# Altium integrated library Altium_WCAP-CSGP (rev22a).IntLib: 953 symbols (part 16 of 17)
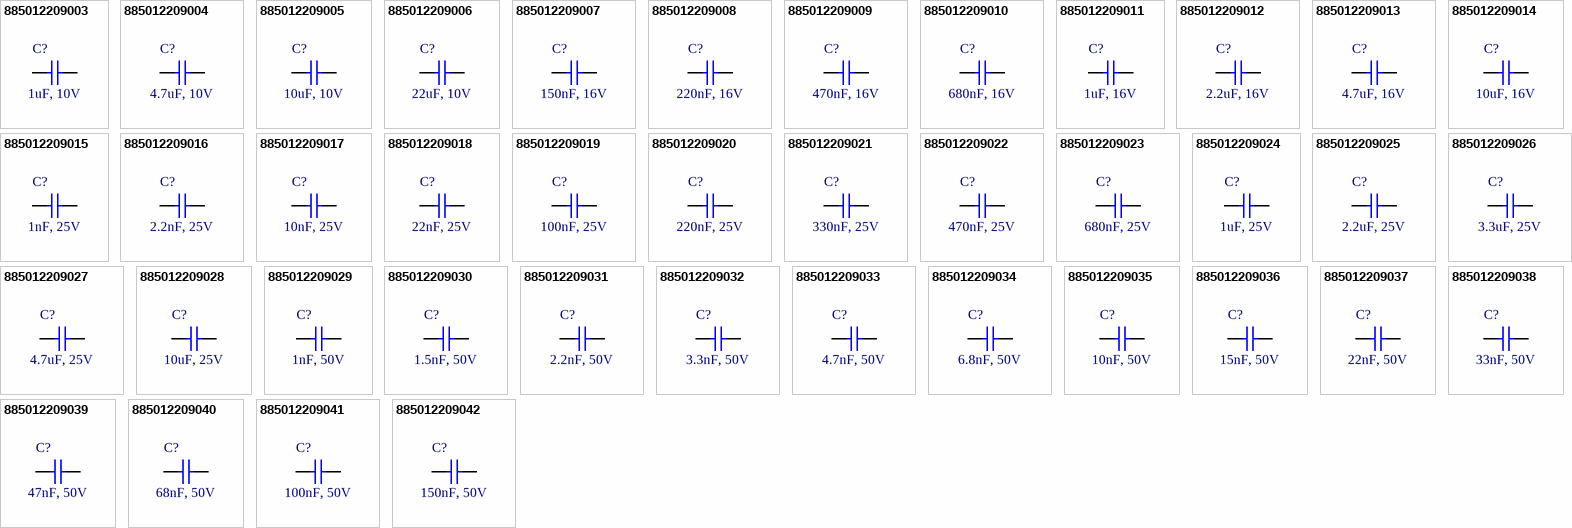
[diagram p42: symbols 885012209003 to 885012209042]

## 885012209020
designator C?, comment 220nF, 25V
WCAP-CSGP Multilayer Ceramic Chip Capacitor, General Purpose, size 1210, X7R, 220nF, 25V; Manufacturer: Wurth Elektronik; Manufacturer Part Number: 885012209020; Capacitance Tolerance: +/-10%; Dissipation Factor: 3.5%; Isolation Resistance: 2.3GOhm; Technical Reference: X7R1210224K025DFCT10000; Capacitance: 220nF; Ceramic Type: X7R; ComponentLink1Description: Manufacturer Link; ComponentLink1URL: http://www.we-online.de; ComponentLink2Description: Datasheet; ComponentLink2URL: https://www.we-online.com/catalog/datasheet/885012209020.pdf; Height: 0.95mm; Length: 3.2mm; Mounting Technology: SMT; Operating Temperature max.: 125C; Operating Temperature min.: -55C; Packaging: Tape and Reel; Rated Voltage: 25V; Size: 1210; Width: 2.5mm
footprint WCAP-CSGP_1210_L3.2W2.5H0.95
pins: 1, 2

## 885012209021
designator C?, comment 330nF, 25V
WCAP-CSGP Multilayer Ceramic Chip Capacitor, General Purpose, size 1210, X7R, 330nF, 25V; Manufacturer: Wurth Elektronik; Manufacturer Part Number: 885012209021; Capacitance Tolerance: +/-10%; Dissipation Factor: 3.5%; Isolation Resistance: 1.5GOhm; Technical Reference: X7R1210334K025DFCT10000; Capacitance: 330nF; Ceramic Type: X7R; ComponentLink1Description: Manufacturer Link; ComponentLink1URL: http://www.we-online.de; ComponentLink2Description: Datasheet; ComponentLink2URL: https://www.we-online.com/catalog/datasheet/885012209021.pdf; Height: 0.95mm; Length: 3.2mm; Mounting Technology: SMT; Operating Temperature max.: 125C; Operating Temperature min.: -55C; Packaging: Tape and Reel; Rated Voltage: 25V; Size: 1210; Width: 2.5mm
footprint WCAP-CSGP_1210_L3.2W2.5H0.95
pins: 1, 2

## 885012209022
designator C?, comment 470nF, 25V
WCAP-CSGP Multilayer Ceramic Chip Capacitor, General Purpose, size 1210, X7R, 470nF, 25V; Manufacturer: Wurth Elektronik; Manufacturer Part Number: 885012209022; Capacitance Tolerance: +/-10%; Dissipation Factor: 3.5%; Isolation Resistance: 1.1GOhm; Technical Reference: X7R1210474K025DFCT10000; Capacitance: 470nF; Ceramic Type: X7R; ComponentLink1Description: Manufacturer Link; ComponentLink1URL: http://www.we-online.de; ComponentLink2Description: Datasheet; ComponentLink2URL: https://www.we-online.com/catalog/datasheet/885012209022.pdf; Height: 0.95mm; Length: 3.2mm; Mounting Technology: SMT; Operating Temperature max.: 125C; Operating Temperature min.: -55C; Packaging: Tape and Reel; Rated Voltage: 25V; Size: 1210; Width: 2.5mm
footprint WCAP-CSGP_1210_L3.2W2.5H0.95
pins: 1, 2

## 885012209023
designator C?, comment 680nF, 25V
WCAP-CSGP Multilayer Ceramic Chip Capacitor, General Purpose, size 1210, X7R, 680nF, 25V; Manufacturer: Wurth Elektronik; Manufacturer Part Number: 885012209023; Capacitance Tolerance: +/-10%; Dissipation Factor: 3.5%; Isolation Resistance: 0.7GOhm; Technical Reference: X7R1210684K025DFCT10000; Capacitance: 680nF; Ceramic Type: X7R; ComponentLink1Description: Manufacturer Link; ComponentLink1URL: http://www.we-online.de; ComponentLink2Description: Datasheet; ComponentLink2URL: https://www.we-online.com/catalog/datasheet/885012209023.pdf; Height: 1.25mm; Length: 3.2mm; Mounting Technology: SMT; Operating Temperature max.: 125C; Operating Temperature min.: -55C; Packaging: Tape and Reel; Rated Voltage: 25V; Size: 1210; Width: 2.5mm
footprint WCAP-CSGP_1210_L3.2W2.5H1.25
pins: 1, 2

## 885012209024
designator C?, comment 1uF, 25V
WCAP-CSGP Multilayer Ceramic Chip Capacitor, General Purpose, size 1210, X7R, 1uF, 25V; Manufacturer: Wurth Elektronik; Manufacturer Part Number: 885012209024; Capacitance Tolerance: +/-10%; Dissipation Factor: 3.5%; Isolation Resistance: 0.5GOhm; Technical Reference: X7R1210105K025DFCT10000; Capacitance: 1uF; Ceramic Type: X7R; ComponentLink1Description: Manufacturer Link; ComponentLink1URL: http://www.we-online.de; ComponentLink2Description: Datasheet; ComponentLink2URL: https://www.we-online.com/catalog/datasheet/885012209024.pdf; Height: 1.25mm; Length: 3.2mm; Mounting Technology: SMT; Operating Temperature max.: 125C; Operating Temperature min.: -55C; Packaging: Tape and Reel; Rated Voltage: 25V; Size: 1210; Width: 2.5mm
footprint WCAP-CSGP_1210_L3.2W2.5H1.25
pins: 1, 2

## 885012209025
designator C?, comment 2.2uF, 25V
WCAP-CSGP Multilayer Ceramic Chip Capacitor, General Purpose, size 1210, X7R, 2.2uF, 25V; Manufacturer: Wurth Elektronik; Manufacturer Part Number: 885012209025; Capacitance Tolerance: +/-10%; Dissipation Factor: 3.5%; Isolation Resistance: 0.2GOhm; Technical Reference: X7R1210225K025DFCT10000; Capacitance: 2.2uF; Ceramic Type: X7R; ComponentLink1Description: Manufacturer Link; ComponentLink1URL: http://www.we-online.de; ComponentLink2Description: Datasheet; ComponentLink2URL: https://www.we-online.com/catalog/datasheet/885012209025.pdf; Height: 1.6mm; Length: 3.2mm; Mounting Technology: SMT; Operating Temperature max.: 125C; Operating Temperature min.: -55C; Packaging: Tape and Reel; Rated Voltage: 25V; Size: 1210; Width: 2.5mm
footprint WCAP-CSGP_1210_L3.2W2.5H1.6
pins: 1, 2

## 885012209026
designator C?, comment 3.3uF, 25V
WCAP-CSGP Multilayer Ceramic Chip Capacitor, General Purpose, size 1210, X7R, 3.3uF, 25V; Manufacturer: Wurth Elektronik; Manufacturer Part Number: 885012209026; Capacitance Tolerance: +/-10%; Dissipation Factor: 3.5%; Isolation Resistance: 0.2GOhm; Technical Reference: X7R1210335K025DFCT10000; Capacitance: 3.3uF; Ceramic Type: X7R; ComponentLink1Description: Manufacturer Link; ComponentLink1URL: http://www.we-online.de; ComponentLink2Description: Datasheet; ComponentLink2URL: https://www.we-online.com/catalog/datasheet/885012209026.pdf; Height: 1.6mm; Length: 3.2mm; Mounting Technology: SMT; Operating Temperature max.: 125C; Operating Temperature min.: -55C; Packaging: Tape and Reel; Rated Voltage: 25V; Size: 1210; Width: 2.5mm
footprint WCAP-CSGP_1210_L3.2W2.5H1.6
pins: 1, 2

## 885012209027
designator C?, comment 4.7uF, 25V
WCAP-CSGP Multilayer Ceramic Chip Capacitor, General Purpose, size 1210, X7R, 4.7uF, 25V; Manufacturer: Wurth Elektronik; Manufacturer Part Number: 885012209027; Capacitance Tolerance: +/-10%; Dissipation Factor: 3.5%; Isolation Resistance: 0.1GOhm; Technical Reference: X7R1210475K025DFCT10000; Capacitance: 4.7uF; Ceramic Type: X7R; ComponentLink1Description: Manufacturer Link; ComponentLink1URL: http://www.we-online.de; ComponentLink2Description: Datasheet; ComponentLink2URL: https://www.we-online.com/catalog/datasheet/885012209027.pdf; Height: 2mm; Length: 3.2mm; Mounting Technology: SMT; Operating Temperature max.: 125C; Operating Temperature min.: -55C; Packaging: Tape and Reel; Rated Voltage: 25V; Size: 1210; Width: 2.5mm
footprint WCAP-CSGP_1210_L3.2W2.5H2
pins: 1, 2

## 885012209028
designator C?, comment 10uF, 25V
WCAP-CSGP Multilayer Ceramic Chip Capacitor, General Purpose, size 1210, X7R, 10uF, 25V; Manufacturer: Wurth Elektronik; Manufacturer Part Number: 885012209028; Capacitance Tolerance: +/-10%; Dissipation Factor: 5%; Isolation Resistance: 0.01GOhm; Technical Reference: X7R1210106K025DFCT10000; Capacitance: 10uF; Ceramic Type: X7R; ComponentLink1Description: Manufacturer Link; ComponentLink1URL: http://www.we-online.de; ComponentLink2Description: Datasheet; ComponentLink2URL: https://www.we-online.com/catalog/datasheet/885012209028.pdf; Height: 2mm; Length: 3.2mm; Mounting Technology: SMT; Operating Temperature max.: 125C; Operating Temperature min.: -55C; Packaging: Tape and Reel; Rated Voltage: 25V; Size: 1210; Width: 2.5mm
footprint WCAP-CSGP_1210_L3.2W2.5H2
pins: 1, 2

## 885012209029
designator C?, comment 1nF, 50V
WCAP-CSGP Multilayer Ceramic Chip Capacitor, General Purpose, size 1210, X7R, 1nF, 50V; Manufacturer: Wurth Elektronik; Manufacturer Part Number: 885012209029; Capacitance Tolerance: +/-10%; Dissipation Factor: 2.5%; Isolation Resistance: 10GOhm; Technical Reference: X7R1210102K050DFCT10000; Capacitance: 1nF; Ceramic Type: X7R; ComponentLink1Description: Manufacturer Link; ComponentLink1URL: http://www.we-online.de; ComponentLink2Description: Datasheet; ComponentLink2URL: https://www.we-online.com/catalog/datasheet/885012209029.pdf; Height: 0.95mm; Length: 3.2mm; Mounting Technology: SMT; Operating Temperature max.: 125C; Operating Temperature min.: -55C; Packaging: Tape and Reel; Rated Voltage: 50V; Size: 1210; Width: 2.5mm
footprint WCAP-CSGP_1210_L3.2W2.5H0.95
pins: 1, 2

## 885012209030
designator C?, comment 1.5nF, 50V
WCAP-CSGP Multilayer Ceramic Chip Capacitor, General Purpose, size 1210, X7R, 1.5nF, 50V; Manufacturer: Wurth Elektronik; Manufacturer Part Number: 885012209030; Capacitance Tolerance: +/-10%; Dissipation Factor: 2.5%; Isolation Resistance: 10GOhm; Technical Reference: X7R1210152K050DFCT10000; Capacitance: 1.5nF; Ceramic Type: X7R; ComponentLink1Description: Manufacturer Link; ComponentLink1URL: http://www.we-online.de; ComponentLink2Description: Datasheet; ComponentLink2URL: https://www.we-online.com/catalog/datasheet/885012209030.pdf; Height: 0.95mm; Length: 3.2mm; Mounting Technology: SMT; Operating Temperature max.: 125C; Operating Temperature min.: -55C; Packaging: Tape and Reel; Rated Voltage: 50V; Size: 1210; Width: 2.5mm
footprint WCAP-CSGP_1210_L3.2W2.5H0.95
pins: 1, 2

## 885012209031
designator C?, comment 2.2nF, 50V
WCAP-CSGP Multilayer Ceramic Chip Capacitor, General Purpose, size 1210, X7R, 2.2nF, 50V; Manufacturer: Wurth Elektronik; Manufacturer Part Number: 885012209031; Capacitance Tolerance: +/-10%; Dissipation Factor: 2.5%; Isolation Resistance: 10GOhm; Technical Reference: X7R1210222K050DFCT10000; Capacitance: 2.2nF; Ceramic Type: X7R; ComponentLink1Description: Manufacturer Link; ComponentLink1URL: http://www.we-online.de; ComponentLink2Description: Datasheet; ComponentLink2URL: https://www.we-online.com/catalog/datasheet/885012209031.pdf; Height: 0.95mm; Length: 3.2mm; Mounting Technology: SMT; Operating Temperature max.: 125C; Operating Temperature min.: -55C; Packaging: Tape and Reel; Rated Voltage: 50V; Size: 1210; Width: 2.5mm
footprint WCAP-CSGP_1210_L3.2W2.5H0.95
pins: 1, 2

## 885012209032
designator C?, comment 3.3nF, 50V
WCAP-CSGP Multilayer Ceramic Chip Capacitor, General Purpose, size 1210, X7R, 3.3nF, 50V; Manufacturer: Wurth Elektronik; Manufacturer Part Number: 885012209032; Capacitance Tolerance: +/-10%; Dissipation Factor: 2.5%; Isolation Resistance: 10GOhm; Technical Reference: X7R1210332K050DFCT10000; Capacitance: 3.3nF; Ceramic Type: X7R; ComponentLink1Description: Manufacturer Link; ComponentLink1URL: http://www.we-online.de; ComponentLink2Description: Datasheet; ComponentLink2URL: https://www.we-online.com/catalog/datasheet/885012209032.pdf; Height: 0.95mm; Length: 3.2mm; Mounting Technology: SMT; Operating Temperature max.: 125C; Operating Temperature min.: -55C; Packaging: Tape and Reel; Rated Voltage: 50V; Size: 1210; Width: 2.5mm
footprint WCAP-CSGP_1210_L3.2W2.5H0.95
pins: 1, 2

## 885012209033
designator C?, comment 4.7nF, 50V
WCAP-CSGP Multilayer Ceramic Chip Capacitor, General Purpose, size 1210, X7R, 4.7nF, 50V; Manufacturer: Wurth Elektronik; Manufacturer Part Number: 885012209033; Capacitance Tolerance: +/-10%; Dissipation Factor: 2.5%; Isolation Resistance: 10GOhm; Technical Reference: X7R1210472K050DFCT10000; Capacitance: 4.7nF; Ceramic Type: X7R; ComponentLink1Description: Manufacturer Link; ComponentLink1URL: http://www.we-online.de; ComponentLink2Description: Datasheet; ComponentLink2URL: https://www.we-online.com/catalog/datasheet/885012209033.pdf; Height: 0.95mm; Length: 3.2mm; Mounting Technology: SMT; Operating Temperature max.: 125C; Operating Temperature min.: -55C; Packaging: Tape and Reel; Rated Voltage: 50V; Size: 1210; Width: 2.5mm
footprint WCAP-CSGP_1210_L3.2W2.5H0.95
pins: 1, 2

## 885012209034
designator C?, comment 6.8nF, 50V
WCAP-CSGP Multilayer Ceramic Chip Capacitor, General Purpose, size 1210, X7R, 6.8nF, 50V; Manufacturer: Wurth Elektronik; Manufacturer Part Number: 885012209034; Capacitance Tolerance: +/-10%; Dissipation Factor: 2.5%; Isolation Resistance: 10GOhm; Technical Reference: X7R1210682K050DFCT10000; Capacitance: 6.8nF; Ceramic Type: X7R; ComponentLink1Description: Manufacturer Link; ComponentLink1URL: http://www.we-online.de; ComponentLink2Description: Datasheet; ComponentLink2URL: https://www.we-online.com/catalog/datasheet/885012209034.pdf; Height: 0.95mm; Length: 3.2mm; Mounting Technology: SMT; Operating Temperature max.: 125C; Operating Temperature min.: -55C; Packaging: Tape and Reel; Rated Voltage: 50V; Size: 1210; Width: 2.5mm
footprint WCAP-CSGP_1210_L3.2W2.5H0.95
pins: 1, 2

## 885012209035
designator C?, comment 10nF, 50V
WCAP-CSGP Multilayer Ceramic Chip Capacitor, General Purpose, size 1210, X7R, 10nF, 50V; Manufacturer: Wurth Elektronik; Manufacturer Part Number: 885012209035; Capacitance Tolerance: +/-10%; Dissipation Factor: 2.5%; Isolation Resistance: 10GOhm; Technical Reference: X7R1210103K050DFCT10000; Capacitance: 10nF; Ceramic Type: X7R; ComponentLink1Description: Manufacturer Link; ComponentLink1URL: http://www.we-online.de; ComponentLink2Description: Datasheet; ComponentLink2URL: https://www.we-online.com/catalog/datasheet/885012209035.pdf; Height: 0.95mm; Length: 3.2mm; Mounting Technology: SMT; Operating Temperature max.: 125C; Operating Temperature min.: -55C; Packaging: Tape and Reel; Rated Voltage: 50V; Size: 1210; Width: 2.5mm
footprint WCAP-CSGP_1210_L3.2W2.5H0.95
pins: 1, 2

## 885012209036
designator C?, comment 15nF, 50V
WCAP-CSGP Multilayer Ceramic Chip Capacitor, General Purpose, size 1210, X7R, 15nF, 50V; Manufacturer: Wurth Elektronik; Manufacturer Part Number: 885012209036; Capacitance Tolerance: +/-10%; Dissipation Factor: 2.5%; Isolation Resistance: 10GOhm; Technical Reference: X7R1210153K050DFCT10000; Capacitance: 15nF; Ceramic Type: X7R; ComponentLink1Description: Manufacturer Link; ComponentLink1URL: http://www.we-online.de; ComponentLink2Description: Datasheet; ComponentLink2URL: https://www.we-online.com/catalog/datasheet/885012209036.pdf; Height: 0.95mm; Length: 3.2mm; Mounting Technology: SMT; Operating Temperature max.: 125C; Operating Temperature min.: -55C; Packaging: Tape and Reel; Rated Voltage: 50V; Size: 1210; Width: 2.5mm
footprint WCAP-CSGP_1210_L3.2W2.5H0.95
pins: 1, 2

## 885012209037
designator C?, comment 22nF, 50V
WCAP-CSGP Multilayer Ceramic Chip Capacitor, General Purpose, size 1210, X7R, 22nF, 50V; Manufacturer: Wurth Elektronik; Manufacturer Part Number: 885012209037; Capacitance Tolerance: +/-10%; Dissipation Factor: 2.5%; Isolation Resistance: 10GOhm; Technical Reference: X7R1210223K050DFCT10000; Capacitance: 22nF; Ceramic Type: X7R; ComponentLink1Description: Manufacturer Link; ComponentLink1URL: http://www.we-online.de; ComponentLink2Description: Datasheet; ComponentLink2URL: https://www.we-online.com/catalog/datasheet/885012209037.pdf; Height: 0.95mm; Length: 3.2mm; Mounting Technology: SMT; Operating Temperature max.: 125C; Operating Temperature min.: -55C; Packaging: Tape and Reel; Rated Voltage: 50V; Size: 1210; Width: 2.5mm
footprint WCAP-CSGP_1210_L3.2W2.5H0.95
pins: 1, 2

## 885012209038
designator C?, comment 33nF, 50V
WCAP-CSGP Multilayer Ceramic Chip Capacitor, General Purpose, size 1210, X7R, 33nF, 50V; Manufacturer: Wurth Elektronik; Manufacturer Part Number: 885012209038; Capacitance Tolerance: +/-10%; Dissipation Factor: 2.5%; Isolation Resistance: 10GOhm; Technical Reference: X7R1210333K050DFCT10000; Capacitance: 33nF; Ceramic Type: X7R; ComponentLink1Description: Manufacturer Link; ComponentLink1URL: http://www.we-online.de; ComponentLink2Description: Datasheet; ComponentLink2URL: https://www.we-online.com/catalog/datasheet/885012209038.pdf; Height: 0.95mm; Length: 3.2mm; Mounting Technology: SMT; Operating Temperature max.: 125C; Operating Temperature min.: -55C; Packaging: Tape and Reel; Rated Voltage: 50V; Size: 1210; Width: 2.5mm
footprint WCAP-CSGP_1210_L3.2W2.5H0.95
pins: 1, 2

## 885012209039
designator C?, comment 47nF, 50V
WCAP-CSGP Multilayer Ceramic Chip Capacitor, General Purpose, size 1210, X7R, 47nF, 50V; Manufacturer: Wurth Elektronik; Manufacturer Part Number: 885012209039; Capacitance Tolerance: +/-10%; Dissipation Factor: 2.5%; Isolation Resistance: 10GOhm; Technical Reference: X7R1210473K050DFCT10000; Capacitance: 47nF; Ceramic Type: X7R; ComponentLink1Description: Manufacturer Link; ComponentLink1URL: http://www.we-online.de; ComponentLink2Description: Datasheet; ComponentLink2URL: https://www.we-online.com/catalog/datasheet/885012209039.pdf; Height: 0.95mm; Length: 3.2mm; Mounting Technology: SMT; Operating Temperature max.: 125C; Operating Temperature min.: -55C; Packaging: Tape and Reel; Rated Voltage: 50V; Size: 1210; Width: 2.5mm
footprint WCAP-CSGP_1210_L3.2W2.5H0.95
pins: 1, 2

## 885012209040
designator C?, comment 68nF, 50V
WCAP-CSGP Multilayer Ceramic Chip Capacitor, General Purpose, size 1210, X7R, 68nF, 50V; Manufacturer: Wurth Elektronik; Manufacturer Part Number: 885012209040; Capacitance Tolerance: +/-10%; Dissipation Factor: 2.5%; Isolation Resistance: 7.4GOhm; Technical Reference: X7R1210683K050DFCT10000; Capacitance: 68nF; Ceramic Type: X7R; ComponentLink1Description: Manufacturer Link; ComponentLink1URL: http://www.we-online.de; ComponentLink2Description: Datasheet; ComponentLink2URL: https://www.we-online.com/catalog/datasheet/885012209040.pdf; Height: 0.95mm; Length: 3.2mm; Mounting Technology: SMT; Operating Temperature max.: 125C; Operating Temperature min.: -55C; Packaging: Tape and Reel; Rated Voltage: 50V; Size: 1210; Width: 2.5mm
footprint WCAP-CSGP_1210_L3.2W2.5H0.95
pins: 1, 2

## 885012209041
designator C?, comment 100nF, 50V
WCAP-CSGP Multilayer Ceramic Chip Capacitor, General Purpose, size 1210, X7R, 100nF, 50V; Manufacturer: Wurth Elektronik; Manufacturer Part Number: 885012209041; Capacitance Tolerance: +/-10%; Dissipation Factor: 2.5%; Isolation Resistance: 5GOhm; Technical Reference: X7R1210104K050DFCT10000; Capacitance: 100nF; Ceramic Type: X7R; ComponentLink1Description: Manufacturer Link; ComponentLink1URL: http://www.we-online.de; ComponentLink2Description: Datasheet; ComponentLink2URL: https://www.we-online.com/catalog/datasheet/885012209041.pdf; Height: 0.95mm; Length: 3.2mm; Mounting Technology: SMT; Operating Temperature max.: 125C; Operating Temperature min.: -55C; Packaging: Tape and Reel; Rated Voltage: 50V; Size: 1210; Width: 2.5mm
footprint WCAP-CSGP_1210_L3.2W2.5H0.95
pins: 1, 2

## 885012209042
designator C?, comment 150nF, 50V
WCAP-CSGP Multilayer Ceramic Chip Capacitor, General Purpose, size 1210, X7R, 150nF, 50V; Manufacturer: Wurth Elektronik; Manufacturer Part Number: 885012209042; Capacitance Tolerance: +/-10%; Dissipation Factor: 2.5%; Isolation Resistance: 3.3GOhm; Technical Reference: X7R1210154K050DFCT10000; Capacitance: 150nF; Ceramic Type: X7R; ComponentLink1Description: Manufacturer Link; ComponentLink1URL: http://www.we-online.de; ComponentLink2Description: Datasheet; ComponentLink2URL: https://www.we-online.com/catalog/datasheet/885012209042.pdf; Height: 0.95mm; Length: 3.2mm; Mounting Technology: SMT; Operating Temperature max.: 125C; Operating Temperature min.: -55C; Packaging: Tape and Reel; Rated Voltage: 50V; Size: 1210; Width: 2.5mm
footprint WCAP-CSGP_1210_L3.2W2.5H0.95
pins: 1, 2

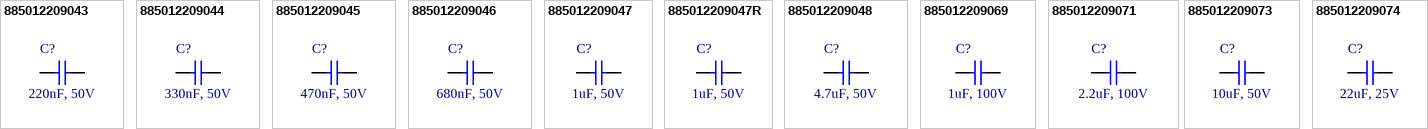
[diagram p25: symbols 885012209043 to 885012209074]

## 885012209043
designator C?, comment 220nF, 50V
WCAP-CSGP Multilayer Ceramic Chip Capacitor, General Purpose, size 1210, X7R, 220nF, 50V; Manufacturer: Wurth Elektronik; Manufacturer Part Number: 885012209043; Capacitance Tolerance: +/-10%; Dissipation Factor: 2.5%; Isolation Resistance: 2.3GOhm; Technical Reference: X7R1210224K050DFCT10000; Capacitance: 220nF; Ceramic Type: X7R; ComponentLink1Description: Manufacturer Link; ComponentLink1URL: http://www.we-online.de; ComponentLink2Description: Datasheet; ComponentLink2URL: https://www.we-online.com/catalog/datasheet/885012209043.pdf; Height: 0.95mm; Length: 3.2mm; Mounting Technology: SMT; Operating Temperature max.: 125C; Operating Temperature min.: -55C; Packaging: Tape and Reel; Rated Voltage: 50V; Size: 1210; Width: 2.5mm
footprint WCAP-CSGP_1210_L3.2W2.5H0.95
pins: 1, 2

## 885012209044
designator C?, comment 330nF, 50V
WCAP-CSGP Multilayer Ceramic Chip Capacitor, General Purpose, size 1210, X7R, 330nF, 50V; Manufacturer: Wurth Elektronik; Manufacturer Part Number: 885012209044; Capacitance Tolerance: +/-10%; Dissipation Factor: 2.5%; Isolation Resistance: 1.5GOhm; Technical Reference: X7R1210334K050DFCT10000; Capacitance: 330nF; Ceramic Type: X7R; ComponentLink1Description: Manufacturer Link; ComponentLink1URL: http://www.we-online.de; ComponentLink2Description: Datasheet; ComponentLink2URL: https://www.we-online.com/catalog/datasheet/885012209044.pdf; Height: 1.25mm; Length: 3.2mm; Mounting Technology: SMT; Operating Temperature max.: 125C; Operating Temperature min.: -55C; Packaging: Tape and Reel; Rated Voltage: 50V; Size: 1210; Width: 2.5mm
footprint WCAP-CSGP_1210_L3.2W2.5H1.25
pins: 1, 2

## 885012209045
designator C?, comment 470nF, 50V
WCAP-CSGP Multilayer Ceramic Chip Capacitor, General Purpose, size 1210, X7R, 470nF, 50V; Manufacturer: Wurth Elektronik; Manufacturer Part Number: 885012209045; Capacitance Tolerance: +/-10%; Dissipation Factor: 2.5%; Isolation Resistance: 1.1GOhm; Technical Reference: X7R1210474K050DFCT10000; Capacitance: 470nF; Ceramic Type: X7R; ComponentLink1Description: Manufacturer Link; ComponentLink1URL: http://www.we-online.de; ComponentLink2Description: Datasheet; ComponentLink2URL: https://www.we-online.com/catalog/datasheet/885012209045.pdf; Height: 1.25mm; Length: 3.2mm; Mounting Technology: SMT; Operating Temperature max.: 125C; Operating Temperature min.: -55C; Packaging: Tape and Reel; Rated Voltage: 50V; Size: 1210; Width: 2.5mm
footprint WCAP-CSGP_1210_L3.2W2.5H1.25
pins: 1, 2

## 885012209046
designator C?, comment 680nF, 50V
WCAP-CSGP Multilayer Ceramic Chip Capacitor, General Purpose, size 1210, X7R, 680nF, 50V; Manufacturer: Wurth Elektronik; Manufacturer Part Number: 885012209046; Capacitance Tolerance: +/-10%; Dissipation Factor: 2.5%; Isolation Resistance: 0.7GOhm; Technical Reference: X7R1210684K050DFCT10000; Capacitance: 680nF; Ceramic Type: X7R; ComponentLink1Description: Manufacturer Link; ComponentLink1URL: http://www.we-online.de; ComponentLink2Description: Datasheet; ComponentLink2URL: https://www.we-online.com/catalog/datasheet/885012209046.pdf; Height: 1.25mm; Length: 3.2mm; Mounting Technology: SMT; Operating Temperature max.: 125C; Operating Temperature min.: -55C; Packaging: Tape and Reel; Rated Voltage: 50V; Size: 1210; Width: 2.5mm
footprint WCAP-CSGP_1210_L3.2W2.5H1.25
pins: 1, 2

## 885012209047
designator C?, comment 1uF, 50V
WCAP-CSGP Multilayer Ceramic Chip Capacitor, General Purpose, size 1210, X7R, 1uF, 50V; Manufacturer: Wurth Elektronik; Manufacturer Part Number: 885012209047; Capacitance Tolerance: +/-10%; Dissipation Factor: 2.5%; Isolation Resistance: 0.5GOhm; Technical Reference: X7R1210105K050DFCT10000; Capacitance: 1uF; Ceramic Type: X7R; ComponentLink1Description: Manufacturer Link; ComponentLink1URL: http://www.we-online.de; ComponentLink2Description: Datasheet; ComponentLink2URL: https://www.we-online.com/catalog/datasheet/885012209047.pdf; Height: 1.25mm; Length: 3.2mm; Mounting Technology: SMT; Operating Temperature max.: 125C; Operating Temperature min.: -55C; Packaging: Tape and Reel; Rated Voltage: 50V; Size: 1210; Width: 2.5mm
footprint WCAP-CSGP_1210_L3.2W2.5H1.25
pins: 1, 2

## 885012209047R
designator C?, comment 1uF, 50V
WCAP-CSGP Multilayer Ceramic Chip Capacitor, General Purpose, size 1210, X7R, 1uF, 50V; Manufacturer: Wurth Elektronik; Manufacturer Part Number: 885012209047R; Capacitance Tolerance: +/-10%; Dissipation Factor: 2.5%; Isolation Resistance: 0.5GOhm; Technical Reference: X7R1210105K050DFCT20000; Capacitance: 1uF; Ceramic Type: X7R; ComponentLink1Description: Manufacturer Link; ComponentLink1URL: http://www.we-online.de; ComponentLink2Description: Datasheet; ComponentLink2URL: https://www.we-online.com/catalog/datasheet/885012209047R.pdf; Height: 1.25mm; Length: 3.2mm; Mounting Technology: SMT; Operating Temperature max.: 125C; Operating Temperature min.: -55C; Packaging: Tape and Reel; Rated Voltage: 50V; Size: 1210; Width: 2.5mm
footprint WCAP-CSGP_1210_L3.2W2.5H1.25
pins: 1, 2

## 885012209048
designator C?, comment 4.7uF, 50V
WCAP-CSGP Multilayer Ceramic Chip Capacitor, General Purpose, size 1210, X7R, 4.7uF, 50V; Manufacturer: Wurth Elektronik; Manufacturer Part Number: 885012209048; Capacitance Tolerance: +/-10%; Dissipation Factor: 5%; Isolation Resistance: 0.02GOhm; Technical Reference: X7R1210475K050DFCT10000; Capacitance: 4.7uF; Ceramic Type: X7R; ComponentLink1Description: Manufacturer Link; ComponentLink1URL: http://www.we-online.de; ComponentLink2Description: Datasheet; ComponentLink2URL: https://www.we-online.com/catalog/datasheet/885012209048.pdf; Height: 2.5mm; Length: 3.2mm; Mounting Technology: SMT; Operating Temperature max.: 125C; Operating Temperature min.: -55C; Packaging: Tape and Reel; Rated Voltage: 50V; Size: 1210; Width: 2.5mm
footprint WCAP-CSGP_1210_L3.2W2.5H2.5
pins: 1, 2

## 885012209069
designator C?, comment 1uF, 100V
WCAP-CSGP Multilayer Ceramic Chip Capacitor, General Purpose, size 1210, X7R, 1uF, 100V; Manufacturer: Wurth Elektronik; Manufacturer Part Number: 885012209069; Capacitance Tolerance: +/-10%; Dissipation Factor: 2.5%; Isolation Resistance: 0.1GOhm; Technical Reference: X7R1210105K100DFCT10000; Capacitance: 1uF; Ceramic Type: X7R; ComponentLink1Description: Manufacturer Link; ComponentLink1URL: http://www.we-online.de; ComponentLink2Description: Datasheet; ComponentLink2URL: https://www.we-online.com/catalog/datasheet/885012209069.pdf; Height: 2mm; Length: 3.2mm; Mounting Technology: SMT; Operating Temperature max.: 125C; Operating Temperature min.: -55C; Packaging: Tape and Reel; Rated Voltage: 100V; Size: 1210; Width: 2.5mm
footprint WCAP-CSGP_1210_L3.2W2.5H2
pins: 1, 2

## 885012209071
designator C?, comment 2.2uF, 100V
WCAP-CSGP Multilayer Ceramic Chip Capacitor, General Purpose, size 1210, X7R, 2.2uF, 100V; Manufacturer: Wurth Elektronik; Manufacturer Part Number: 885012209071; Capacitance Tolerance: +/-10%; Dissipation Factor: 5%; Isolation Resistance: 0.05GOhm; Technical Reference: X7R1210225K100DFCT10000; Capacitance: 2.2uF; Ceramic Type: X7R; ComponentLink1Description: Manufacturer Link; ComponentLink1URL: http://www.we-online.de; ComponentLink2Description: Datasheet; ComponentLink2URL: https://www.we-online.com/catalog/datasheet/885012209071.pdf; Height: 2.5mm; Length: 3.2mm; Mounting Technology: SMT; Operating Temperature max.: 125C; Operating Temperature min.: -55C; Packaging: Tape and Reel; Rated Voltage: 100V; Size: 1210; Width: 2.5mm
footprint WCAP-CSGP_1210_L3.2W2.5H2.5
pins: 1, 2

## 885012209073
designator C?, comment 10uF, 50V
WCAP-CSGP Multilayer Ceramic Chip Capacitor, General Purpose, size 1210, X7R, 10uF, 50V; Manufacturer: Wurth Elektronik; Manufacturer Part Number: 885012209073; Capacitance Tolerance: +/-10%; Dissipation Factor: 10%; Isolation Resistance: 0.01GOhm; Technical Reference: X7R1210106K050DFCT10000; Capacitance: 10uF; Ceramic Type: X7R; ComponentLink1Description: Manufacturer Link; ComponentLink1URL: http://www.we-online.de; ComponentLink2Description: Datasheet; ComponentLink2URL: https://www.we-online.com/catalog/datasheet/885012209073.pdf; Height: 2.5mm; Length: 3.2mm; Mounting Technology: SMT; Operating Temperature max.: 125C; Operating Temperature min.: -55C; Packaging: Tape and Reel; Rated Voltage: 50V; Size: 1210; Width: 2.5mm
footprint WCAP-CSGP_1210_L3.2W2.5H2.5
pins: 1, 2

## 885012209074
designator C?, comment 22uF, 25V
WCAP-CSGP Multilayer Ceramic Chip Capacitor, General Purpose, size 1210, X7R, 22uF, 25V; Manufacturer: Wurth Elektronik; Manufacturer Part Number: 885012209074; Capacitance Tolerance: +/10%; Dissipation Factor: 10%; Isolation Resistance: 0.005GOhm; Technical Reference: X7R1210226K025DFCT10000; Capacitance: 22uF; Ceramic Type: X7R; ComponentLink1Description: Manufacturer Link; ComponentLink1URL: http://www.we-online.de; ComponentLink2Description: Datasheet; ComponentLink2URL: https://www.we-online.com/catalog/datasheet/885012209074.pdf; Height: 2.5mm; Length: 3.2mm; Mounting Technology: SMT; Operating Temperature max.: 125C; Operating Temperature min.: -55C; Packaging: Tape and Reel; Rated Voltage: 25V; Size: 1210; Width: 2.5mm
footprint WCAP-CSGP_1210_L3.2W2.5H2.5
pins: 1, 2


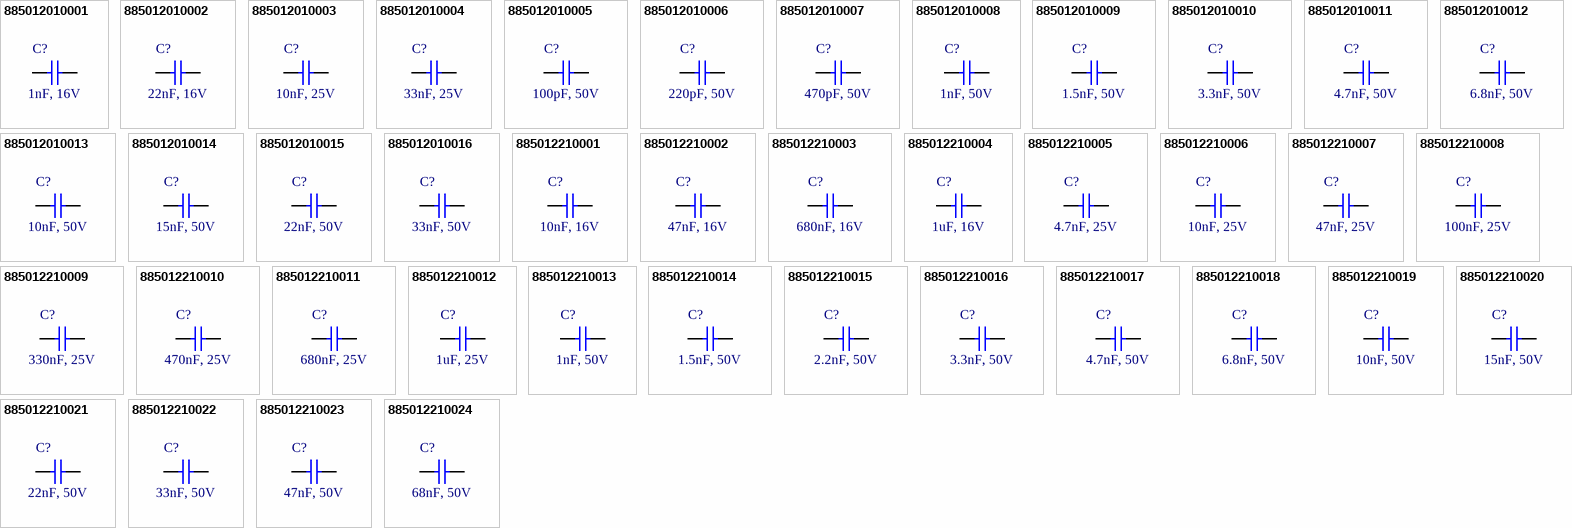
[diagram p26: symbols 885012010001 to 885012210024]

## 885012010001
designator C?, comment 1nF, 16V
WCAP-CSGP Multilayer Ceramic Chip Capacitor, General Purpose, size 1812, NP0, 1nF, 16V; Manufacturer: Wurth Elektronik; Manufacturer Part Number: 885012010001; Capacitance Tolerance: +/-5%; Isolation Resistance: 10GOhm; Q-Factor: 1000; Technical Reference: NP01812102J016DFCT10000; Capacitance: 1nF; Ceramic Type: NP0; ComponentLink1Description: Manufacturer Link; ComponentLink1URL: http://www.we-online.de; ComponentLink2Description: Datasheet; ComponentLink2URL: https://www.we-online.com/catalog/datasheet/885012010001.pdf; Height: 1.25mm; Length: 4.5mm; Mounting Technology: SMT; Operating Temperature max.: 125C; Operating Temperature min.: -55C; Packaging: Tape and Reel; Rated Voltage: 16V; Size: 1812; Width: 3.2mm
footprint WCAP-CSGP_1812_L4.5W3.2H1.25
pins: 1, 2

## 885012010002
designator C?, comment 22nF, 16V
WCAP-CSGP Multilayer Ceramic Chip Capacitor, General Purpose, size 1812, NP0, 22nF, 16V; Manufacturer: Wurth Elektronik; Manufacturer Part Number: 885012010002; Capacitance Tolerance: +/-5%; Isolation Resistance: 10GOhm; Q-Factor: 1000; Technical Reference: NP01812223J016DFCT10000; Capacitance: 22nF; Ceramic Type: NP0; ComponentLink1Description: Manufacturer Link; ComponentLink1URL: http://www.we-online.de; ComponentLink2Description: Datasheet; ComponentLink2URL: https://www.we-online.com/catalog/datasheet/885012010002.pdf; Height: 1.25mm; Length: 4.5mm; Mounting Technology: SMT; Operating Temperature max.: 125C; Operating Temperature min.: -55C; Packaging: Tape and Reel; Rated Voltage: 16V; Size: 1812; Width: 3.2mm
footprint WCAP-CSGP_1812_L4.5W3.2H1.25
pins: 1, 2

## 885012010003
designator C?, comment 10nF, 25V
WCAP-CSGP Multilayer Ceramic Chip Capacitor, General Purpose, size 1812, NP0, 10nF, 25V; Manufacturer: Wurth Elektronik; Manufacturer Part Number: 885012010003; Capacitance Tolerance: +/-5%; Isolation Resistance: 10GOhm; Q-Factor: 1000; Technical Reference: NP01812103J025DFCT10000; Capacitance: 10nF; Ceramic Type: NP0; ComponentLink1Description: Manufacturer Link; ComponentLink1URL: http://www.we-online.de; ComponentLink2Description: Datasheet; ComponentLink2URL: https://www.we-online.com/catalog/datasheet/885012010003.pdf; Height: 1.25mm; Length: 4.5mm; Mounting Technology: SMT; Operating Temperature max.: 125C; Operating Temperature min.: -55C; Packaging: Tape and Reel; Rated Voltage: 25V; Size: 1812; Width: 3.2mm
footprint WCAP-CSGP_1812_L4.5W3.2H1.25
pins: 1, 2

## 885012010004
designator C?, comment 33nF, 25V
WCAP-CSGP Multilayer Ceramic Chip Capacitor, General Purpose, size 1812, NP0, 33nF, 25V; Manufacturer: Wurth Elektronik; Manufacturer Part Number: 885012010004; Capacitance Tolerance: +/-5%; Isolation Resistance: 10GOhm; Q-Factor: 1000; Technical Reference: NP01812333J025DFCT10000; Capacitance: 33nF; Ceramic Type: NP0; ComponentLink1Description: Manufacturer Link; ComponentLink1URL: http://www.we-online.de; ComponentLink2Description: Datasheet; ComponentLink2URL: https://www.we-online.com/catalog/datasheet/885012010004.pdf; Height: 1.25mm; Length: 4.5mm; Mounting Technology: SMT; Operating Temperature max.: 125C; Operating Temperature min.: -55C; Packaging: Tape and Reel; Rated Voltage: 25V; Size: 1812; Width: 3.2mm
footprint WCAP-CSGP_1812_L4.5W3.2H1.25
pins: 1, 2

## 885012010005
designator C?, comment 100pF, 50V
WCAP-CSGP Multilayer Ceramic Chip Capacitor, General Purpose, size 1812, NP0, 100pF, 50V; Manufacturer: Wurth Elektronik; Manufacturer Part Number: 885012010005; Capacitance Tolerance: +/-5%; Isolation Resistance: 10GOhm; Q-Factor: 1000; Technical Reference: NP01812101J050DFCT10000; Capacitance: 100pF; Ceramic Type: NP0; ComponentLink1Description: Manufacturer Link; ComponentLink1URL: http://www.we-online.de; ComponentLink2Description: Datasheet; ComponentLink2URL: https://www.we-online.com/catalog/datasheet/885012010005.pdf; Height: 1.25mm; Length: 4.5mm; Mounting Technology: SMT; Operating Temperature max.: 125C; Operating Temperature min.: -55C; Packaging: Tape and Reel; Rated Voltage: 50V; Size: 1812; Width: 3.2mm
footprint WCAP-CSGP_1812_L4.5W3.2H1.25
pins: 1, 2

## 885012010006
designator C?, comment 220pF, 50V
WCAP-CSGP Multilayer Ceramic Chip Capacitor, General Purpose, size 1812, NP0, 220pF, 50V; Manufacturer: Wurth Elektronik; Manufacturer Part Number: 885012010006; Capacitance Tolerance: +/-5%; Isolation Resistance: 10GOhm; Q-Factor: 1000; Technical Reference: NP01812221J050DFCT10000; Capacitance: 220pF; Ceramic Type: NP0; ComponentLink1Description: Manufacturer Link; ComponentLink1URL: http://www.we-online.de; ComponentLink2Description: Datasheet; ComponentLink2URL: https://www.we-online.com/catalog/datasheet/885012010006.pdf; Height: 1.25mm; Length: 4.5mm; Mounting Technology: SMT; Operating Temperature max.: 125C; Operating Temperature min.: -55C; Packaging: Tape and Reel; Rated Voltage: 50V; Size: 1812; Width: 3.2mm
footprint WCAP-CSGP_1812_L4.5W3.2H1.25
pins: 1, 2

## 885012010007
designator C?, comment 470pF, 50V
WCAP-CSGP Multilayer Ceramic Chip Capacitor, General Purpose, size 1812, NP0, 470pF, 50V; Manufacturer: Wurth Elektronik; Manufacturer Part Number: 885012010007; Capacitance Tolerance: +/-5%; Isolation Resistance: 10GOhm; Q-Factor: 1000; Technical Reference: NP01812471J050DFCT10000; Capacitance: 470pF; Ceramic Type: NP0; ComponentLink1Description: Manufacturer Link; ComponentLink1URL: http://www.we-online.de; ComponentLink2Description: Datasheet; ComponentLink2URL: https://www.we-online.com/catalog/datasheet/885012010007.pdf; Height: 1.25mm; Length: 4.5mm; Mounting Technology: SMT; Operating Temperature max.: 125C; Operating Temperature min.: -55C; Packaging: Tape and Reel; Rated Voltage: 50V; Size: 1812; Width: 3.2mm
footprint WCAP-CSGP_1812_L4.5W3.2H1.25
pins: 1, 2

## 885012010008
designator C?, comment 1nF, 50V
WCAP-CSGP Multilayer Ceramic Chip Capacitor, General Purpose, size 1812, NP0, 1nF, 50V; Manufacturer: Wurth Elektronik; Manufacturer Part Number: 885012010008; Capacitance Tolerance: +/-5%; Isolation Resistance: 10GOhm; Q-Factor: 1000; Technical Reference: NP01812102J050DFCT10000; Capacitance: 1nF; Ceramic Type: NP0; ComponentLink1Description: Manufacturer Link; ComponentLink1URL: http://www.we-online.de; ComponentLink2Description: Datasheet; ComponentLink2URL: https://www.we-online.com/catalog/datasheet/885012010008.pdf; Height: 1.25mm; Length: 4.5mm; Mounting Technology: SMT; Operating Temperature max.: 125C; Operating Temperature min.: -55C; Packaging: Tape and Reel; Rated Voltage: 50V; Size: 1812; Width: 3.2mm
footprint WCAP-CSGP_1812_L4.5W3.2H1.25
pins: 1, 2

## 885012010009
designator C?, comment 1.5nF, 50V
WCAP-CSGP Multilayer Ceramic Chip Capacitor, General Purpose, size 1812, NP0, 1.5nF, 50V; Manufacturer: Wurth Elektronik; Manufacturer Part Number: 885012010009; Capacitance Tolerance: +/-5%; Isolation Resistance: 10GOhm; Q-Factor: 1000; Technical Reference: NP01812152J050DFCT10000; Capacitance: 1.5nF; Ceramic Type: NP0; ComponentLink1Description: Manufacturer Link; ComponentLink1URL: http://www.we-online.de; ComponentLink2Description: Datasheet; ComponentLink2URL: https://www.we-online.com/catalog/datasheet/885012010009.pdf; Height: 1.25mm; Length: 4.5mm; Mounting Technology: SMT; Operating Temperature max.: 125C; Operating Temperature min.: -55C; Packaging: Tape and Reel; Rated Voltage: 50V; Size: 1812; Width: 3.2mm
footprint WCAP-CSGP_1812_L4.5W3.2H1.25
pins: 1, 2

## 885012010010
designator C?, comment 3.3nF, 50V
WCAP-CSGP Multilayer Ceramic Chip Capacitor, General Purpose, size 1812, NP0, 3.3nF, 50V; Manufacturer: Wurth Elektronik; Manufacturer Part Number: 885012010010; Capacitance Tolerance: +/-5%; Isolation Resistance: 10GOhm; Q-Factor: 1000; Technical Reference: NP01812332J050DFCT10000; Capacitance: 3.3nF; Ceramic Type: NP0; ComponentLink1Description: Manufacturer Link; ComponentLink1URL: http://www.we-online.de; ComponentLink2Description: Datasheet; ComponentLink2URL: https://www.we-online.com/catalog/datasheet/885012010010.pdf; Height: 1.25mm; Length: 4.5mm; Mounting Technology: SMT; Operating Temperature max.: 125C; Operating Temperature min.: -55C; Packaging: Tape and Reel; Rated Voltage: 50V; Size: 1812; Width: 3.2mm
footprint WCAP-CSGP_1812_L4.5W3.2H1.25
pins: 1, 2

## 885012010011
designator C?, comment 4.7nF, 50V
WCAP-CSGP Multilayer Ceramic Chip Capacitor, General Purpose, size 1812, NP0, 4.7nF, 50V; Manufacturer: Wurth Elektronik; Manufacturer Part Number: 885012010011; Capacitance Tolerance: +/-5%; Isolation Resistance: 10GOhm; Q-Factor: 1000; Technical Reference: NP01812472J050DFCT10000; Capacitance: 4.7nF; Ceramic Type: NP0; ComponentLink1Description: Manufacturer Link; ComponentLink1URL: http://www.we-online.de; ComponentLink2Description: Datasheet; ComponentLink2URL: https://www.we-online.com/catalog/datasheet/885012010011.pdf; Height: 1.25mm; Length: 4.5mm; Mounting Technology: SMT; Operating Temperature max.: 125C; Operating Temperature min.: -55C; Packaging: Tape and Reel; Rated Voltage: 50V; Size: 1812; Width: 3.2mm
footprint WCAP-CSGP_1812_L4.5W3.2H1.25
pins: 1, 2

## 885012010012
designator C?, comment 6.8nF, 50V
WCAP-CSGP Multilayer Ceramic Chip Capacitor, General Purpose, size 1812, NP0, 6.8nF, 50V; Manufacturer: Wurth Elektronik; Manufacturer Part Number: 885012010012; Capacitance Tolerance: +/-5%; Isolation Resistance: 10GOhm; Q-Factor: 1000; Technical Reference: NP01812682J050DFCT10000; Capacitance: 6.8nF; Ceramic Type: NP0; ComponentLink1Description: Manufacturer Link; ComponentLink1URL: http://www.we-online.de; ComponentLink2Description: Datasheet; ComponentLink2URL: https://www.we-online.com/catalog/datasheet/885012010012.pdf; Height: 1.25mm; Length: 4.5mm; Mounting Technology: SMT; Operating Temperature max.: 125C; Operating Temperature min.: -55C; Packaging: Tape and Reel; Rated Voltage: 50V; Size: 1812; Width: 3.2mm
footprint WCAP-CSGP_1812_L4.5W3.2H1.25
pins: 1, 2

## 885012010013
designator C?, comment 10nF, 50V
WCAP-CSGP Multilayer Ceramic Chip Capacitor, General Purpose, size 1812, NP0, 10nF, 50V; Manufacturer: Wurth Elektronik; Manufacturer Part Number: 885012010013; Capacitance Tolerance: +/-5%; Isolation Resistance: 10GOhm; Q-Factor: 1000; Technical Reference: NP01812103J050DFCT10000; Capacitance: 10nF; Ceramic Type: NP0; ComponentLink1Description: Manufacturer Link; ComponentLink1URL: http://www.we-online.de; ComponentLink2Description: Datasheet; ComponentLink2URL: https://www.we-online.com/catalog/datasheet/885012010013.pdf; Height: 1.25mm; Length: 4.5mm; Mounting Technology: SMT; Operating Temperature max.: 125C; Operating Temperature min.: -55C; Packaging: Tape and Reel; Rated Voltage: 50V; Size: 1812; Width: 3.2mm
footprint WCAP-CSGP_1812_L4.5W3.2H1.25
pins: 1, 2

## 885012010014
designator C?, comment 15nF, 50V
WCAP-CSGP Multilayer Ceramic Chip Capacitor, General Purpose, size 1812, NP0, 15nF, 50V; Manufacturer: Wurth Elektronik; Manufacturer Part Number: 885012010014; Capacitance Tolerance: +/-5%; Isolation Resistance: 10GOhm; Q-Factor: 1000; Technical Reference: NP01812153J050DFCT10000; Capacitance: 15nF; Ceramic Type: NP0; ComponentLink1Description: Manufacturer Link; ComponentLink1URL: http://www.we-online.de; ComponentLink2Description: Datasheet; ComponentLink2URL: https://www.we-online.com/catalog/datasheet/885012010014.pdf; Height: 1.25mm; Length: 4.5mm; Mounting Technology: SMT; Operating Temperature max.: 125C; Operating Temperature min.: -55C; Packaging: Tape and Reel; Rated Voltage: 50V; Size: 1812; Width: 3.2mm
footprint WCAP-CSGP_1812_L4.5W3.2H1.25
pins: 1, 2

## 885012010015
designator C?, comment 22nF, 50V
WCAP-CSGP Multilayer Ceramic Chip Capacitor, General Purpose, size 1812, NP0, 22nF, 50V; Manufacturer: Wurth Elektronik; Manufacturer Part Number: 885012010015; Capacitance Tolerance: +/-5%; Isolation Resistance: 10GOhm; Q-Factor: 1000; Technical Reference: NP01812223J050DFCT10000; Capacitance: 22nF; Ceramic Type: NP0; ComponentLink1Description: Manufacturer Link; ComponentLink1URL: http://www.we-online.de; ComponentLink2Description: Datasheet; ComponentLink2URL: https://www.we-online.com/catalog/datasheet/885012010015.pdf; Height: 1.25mm; Length: 4.5mm; Mounting Technology: SMT; Operating Temperature max.: 125C; Operating Temperature min.: -55C; Packaging: Tape and Reel; Rated Voltage: 50V; Size: 1812; Width: 3.2mm
footprint WCAP-CSGP_1812_L4.5W3.2H1.25
pins: 1, 2

## 885012010016
designator C?, comment 33nF, 50V
WCAP-CSGP Multilayer Ceramic Chip Capacitor, General Purpose, size 1812, NP0, 33nF, 50V; Manufacturer: Wurth Elektronik; Manufacturer Part Number: 885012010016; Capacitance Tolerance: +/-5%; Isolation Resistance: 10GOhm; Q-Factor: 1000; Technical Reference: NP01812333J050DFCT10000; Capacitance: 33nF; Ceramic Type: NP0; ComponentLink1Description: Manufacturer Link; ComponentLink1URL: http://www.we-online.de; ComponentLink2Description: Datasheet; ComponentLink2URL: https://www.we-online.com/catalog/datasheet/885012010016.pdf; Height: 1.25mm; Length: 4.5mm; Mounting Technology: SMT; Operating Temperature max.: 125C; Operating Temperature min.: -55C; Packaging: Tape and Reel; Rated Voltage: 50V; Size: 1812; Width: 3.2mm
footprint WCAP-CSGP_1812_L4.5W3.2H1.25
pins: 1, 2

## 885012210001
designator C?, comment 10nF, 16V
WCAP-CSGP Multilayer Ceramic Chip Capacitor, General Purpose, size 1812, X7R, 10nF, 16V; Manufacturer: Wurth Elektronik; Manufacturer Part Number: 885012210001; Capacitance Tolerance: +/-10%; Dissipation Factor: 3.5%; Isolation Resistance: 10GOhm; Technical Reference: X7R1812103K016DFCT10000; Capacitance: 10nF; Ceramic Type: X7R; ComponentLink1Description: Manufacturer Link; ComponentLink1URL: http://www.we-online.de; ComponentLink2Description: Datasheet; ComponentLink2URL: https://www.we-online.com/catalog/datasheet/885012210001.pdf; Height: 1.25mm; Length: 4.5mm; Mounting Technology: SMT; Operating Temperature max.: 125C; Operating Temperature min.: -55C; Packaging: Tape and Reel; Rated Voltage: 16V; Size: 1812; Width: 3.2mm
footprint WCAP-CSGP_1812_L4.5W3.2H1.25
pins: 1, 2

## 885012210002
designator C?, comment 47nF, 16V
WCAP-CSGP Multilayer Ceramic Chip Capacitor, General Purpose, size 1812, X7R, 47nF, 16V; Manufacturer: Wurth Elektronik; Manufacturer Part Number: 885012210002; Capacitance Tolerance: +/-10%; Dissipation Factor: 3.5%; Isolation Resistance: 10GOhm; Technical Reference: X7R1812473K016DFCT10000; Capacitance: 47nF; Ceramic Type: X7R; ComponentLink1Description: Manufacturer Link; ComponentLink1URL: http://www.we-online.de; ComponentLink2Description: Datasheet; ComponentLink2URL: https://www.we-online.com/catalog/datasheet/885012210002.pdf; Height: 1.25mm; Length: 4.5mm; Mounting Technology: SMT; Operating Temperature max.: 125C; Operating Temperature min.: -55C; Packaging: Tape and Reel; Rated Voltage: 16V; Size: 1812; Width: 3.2mm
footprint WCAP-CSGP_1812_L4.5W3.2H1.25
pins: 1, 2

## 885012210003
designator C?, comment 680nF, 16V
WCAP-CSGP Multilayer Ceramic Chip Capacitor, General Purpose, size 1812, X7R, 680nF, 16V; Manufacturer: Wurth Elektronik; Manufacturer Part Number: 885012210003; Capacitance Tolerance: +/-10%; Dissipation Factor: 3.5%; Isolation Resistance: 0.7GOhm; Technical Reference: X7R1812684K016DFCT10000; Capacitance: 680nF; Ceramic Type: X7R; ComponentLink1Description: Manufacturer Link; ComponentLink1URL: http://www.we-online.de; ComponentLink2Description: Datasheet; ComponentLink2URL: https://www.we-online.com/catalog/datasheet/885012210003.pdf; Height: 1.25mm; Length: 4.5mm; Mounting Technology: SMT; Operating Temperature max.: 125C; Operating Temperature min.: -55C; Packaging: Tape and Reel; Rated Voltage: 16V; Size: 1812; Width: 3.2mm
footprint WCAP-CSGP_1812_L4.5W3.2H1.25
pins: 1, 2

## 885012210004
designator C?, comment 1uF, 16V
WCAP-CSGP Multilayer Ceramic Chip Capacitor, General Purpose, size 1812, X7R, 1uF, 16V; Manufacturer: Wurth Elektronik; Manufacturer Part Number: 885012210004; Capacitance Tolerance: +/-10%; Dissipation Factor: 3.5%; Isolation Resistance: 0.5GOhm; Technical Reference: X7R1812105K016DFCT10000; Capacitance: 1uF; Ceramic Type: X7R; ComponentLink1Description: Manufacturer Link; ComponentLink1URL: http://www.we-online.de; ComponentLink2Description: Datasheet; ComponentLink2URL: https://www.we-online.com/catalog/datasheet/885012210004.pdf; Height: 1.25mm; Length: 4.5mm; Mounting Technology: SMT; Operating Temperature max.: 125C; Operating Temperature min.: -55C; Packaging: Tape and Reel; Rated Voltage: 16V; Size: 1812; Width: 3.2mm
footprint WCAP-CSGP_1812_L4.5W3.2H1.25
pins: 1, 2

## 885012210005
designator C?, comment 4.7nF, 25V
WCAP-CSGP Multilayer Ceramic Chip Capacitor, General Purpose, size 1812, X7R, 4.7nF, 25V; Manufacturer: Wurth Elektronik; Manufacturer Part Number: 885012210005; Capacitance Tolerance: +/-10%; Dissipation Factor: 3.5%; Isolation Resistance: 10GOhm; Technical Reference: X7R1812472K025DFCT10000; Capacitance: 4.7nF; Ceramic Type: X7R; ComponentLink1Description: Manufacturer Link; ComponentLink1URL: http://www.we-online.de; ComponentLink2Description: Datasheet; ComponentLink2URL: https://www.we-online.com/catalog/datasheet/885012210005.pdf; Height: 1.25mm; Length: 4.5mm; Mounting Technology: SMT; Operating Temperature max.: 125C; Operating Temperature min.: -55C; Packaging: Tape and Reel; Rated Voltage: 25V; Size: 1812; Width: 3.2mm
footprint WCAP-CSGP_1812_L4.5W3.2H1.25
pins: 1, 2

## 885012210006
designator C?, comment 10nF, 25V
WCAP-CSGP Multilayer Ceramic Chip Capacitor, General Purpose, size 1812, X7R, 10nF, 25V; Manufacturer: Wurth Elektronik; Manufacturer Part Number: 885012210006; Capacitance Tolerance: +/-10%; Dissipation Factor: 3.5%; Isolation Resistance: 10GOhm; Technical Reference: X7R1812103K025DFCT10000; Capacitance: 10nF; Ceramic Type: X7R; ComponentLink1Description: Manufacturer Link; ComponentLink1URL: http://www.we-online.de; ComponentLink2Description: Datasheet; ComponentLink2URL: https://www.we-online.com/catalog/datasheet/885012210006.pdf; Height: 1.25mm; Length: 4.5mm; Mounting Technology: SMT; Operating Temperature max.: 125C; Operating Temperature min.: -55C; Packaging: Tape and Reel; Rated Voltage: 25V; Size: 1812; Width: 3.2mm
footprint WCAP-CSGP_1812_L4.5W3.2H1.25
pins: 1, 2

## 885012210007
designator C?, comment 47nF, 25V
WCAP-CSGP Multilayer Ceramic Chip Capacitor, General Purpose, size 1812, X7R, 47nF, 25V; Manufacturer: Wurth Elektronik; Manufacturer Part Number: 885012210007; Capacitance Tolerance: +/-10%; Dissipation Factor: 3.5%; Isolation Resistance: 10GOhm; Technical Reference: X7R1812473K025DFCT10000; Capacitance: 47nF; Ceramic Type: X7R; ComponentLink1Description: Manufacturer Link; ComponentLink1URL: http://www.we-online.de; ComponentLink2Description: Datasheet; ComponentLink2URL: https://www.we-online.com/catalog/datasheet/885012210007.pdf; Height: 1.25mm; Length: 4.5mm; Mounting Technology: SMT; Operating Temperature max.: 125C; Operating Temperature min.: -55C; Packaging: Tape and Reel; Rated Voltage: 25V; Size: 1812; Width: 3.2mm
footprint WCAP-CSGP_1812_L4.5W3.2H1.25
pins: 1, 2

## 885012210008
designator C?, comment 100nF, 25V
WCAP-CSGP Multilayer Ceramic Chip Capacitor, General Purpose, size 1812, X7R, 100nF, 25V; Manufacturer: Wurth Elektronik; Manufacturer Part Number: 885012210008; Capacitance Tolerance: +/-10%; Dissipation Factor: 3.5%; Isolation Resistance: 5GOhm; Technical Reference: X7R1812104K025DFCT10000; Capacitance: 100nF; Ceramic Type: X7R; ComponentLink1Description: Manufacturer Link; ComponentLink1URL: http://www.we-online.de; ComponentLink2Description: Datasheet; ComponentLink2URL: https://www.we-online.com/catalog/datasheet/885012210008.pdf; Height: 1.25mm; Length: 4.5mm; Mounting Technology: SMT; Operating Temperature max.: 125C; Operating Temperature min.: -55C; Packaging: Tape and Reel; Rated Voltage: 25V; Size: 1812; Width: 3.2mm
footprint WCAP-CSGP_1812_L4.5W3.2H1.25
pins: 1, 2

## 885012210009
designator C?, comment 330nF, 25V
WCAP-CSGP Multilayer Ceramic Chip Capacitor, General Purpose, size 1812, X7R, 330nF, 25V; Manufacturer: Wurth Elektronik; Manufacturer Part Number: 885012210009; Capacitance Tolerance: +/-10%; Dissipation Factor: 3.5%; Isolation Resistance: 1.5GOhm; Technical Reference: X7R1812334K025DFCT10000; Capacitance: 330nF; Ceramic Type: X7R; ComponentLink1Description: Manufacturer Link; ComponentLink1URL: http://www.we-online.de; ComponentLink2Description: Datasheet; ComponentLink2URL: https://www.we-online.com/catalog/datasheet/885012210009.pdf; Height: 1.25mm; Length: 4.5mm; Mounting Technology: SMT; Operating Temperature max.: 125C; Operating Temperature min.: -55C; Packaging: Tape and Reel; Rated Voltage: 25V; Size: 1812; Width: 3.2mm
footprint WCAP-CSGP_1812_L4.5W3.2H1.25
pins: 1, 2